# EAGLE library part BMA180 (library X893)
http://omapworld.com/BMA180_111_1002839.pdf
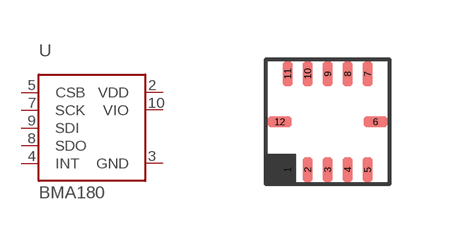
[diagram p156: symbol with the pads of BMA180; footprint BMA180]

Designator prefix U

## BMA180  [BMA180]
2  VDD
3  GND  pwr
4  INT  out
5  CSB  in
7  SCK  in
8  SDO  out
9  SDI
10  VIO

## Footprint BMA180 (pad centres in mm)
smd 0.25 x 0.6: 1 -1,-1.2; 2 -0.5,-1.2; 3 0,-1.2; 4 0.5,-1.2; 5 1,-1.2; 7 1,1.2; 8 0.5,1.2; 9 0,1.2; 10 -0.5,1.2; 11 -1,1.2
smd 0.6 x 0.25: 6 1.2,0; 12 -1.2,0